# Altium schematic symbol library kmilo17pet-TI_LDO_400_7500.SchLib: 1409 symbols (part 55 of 60)
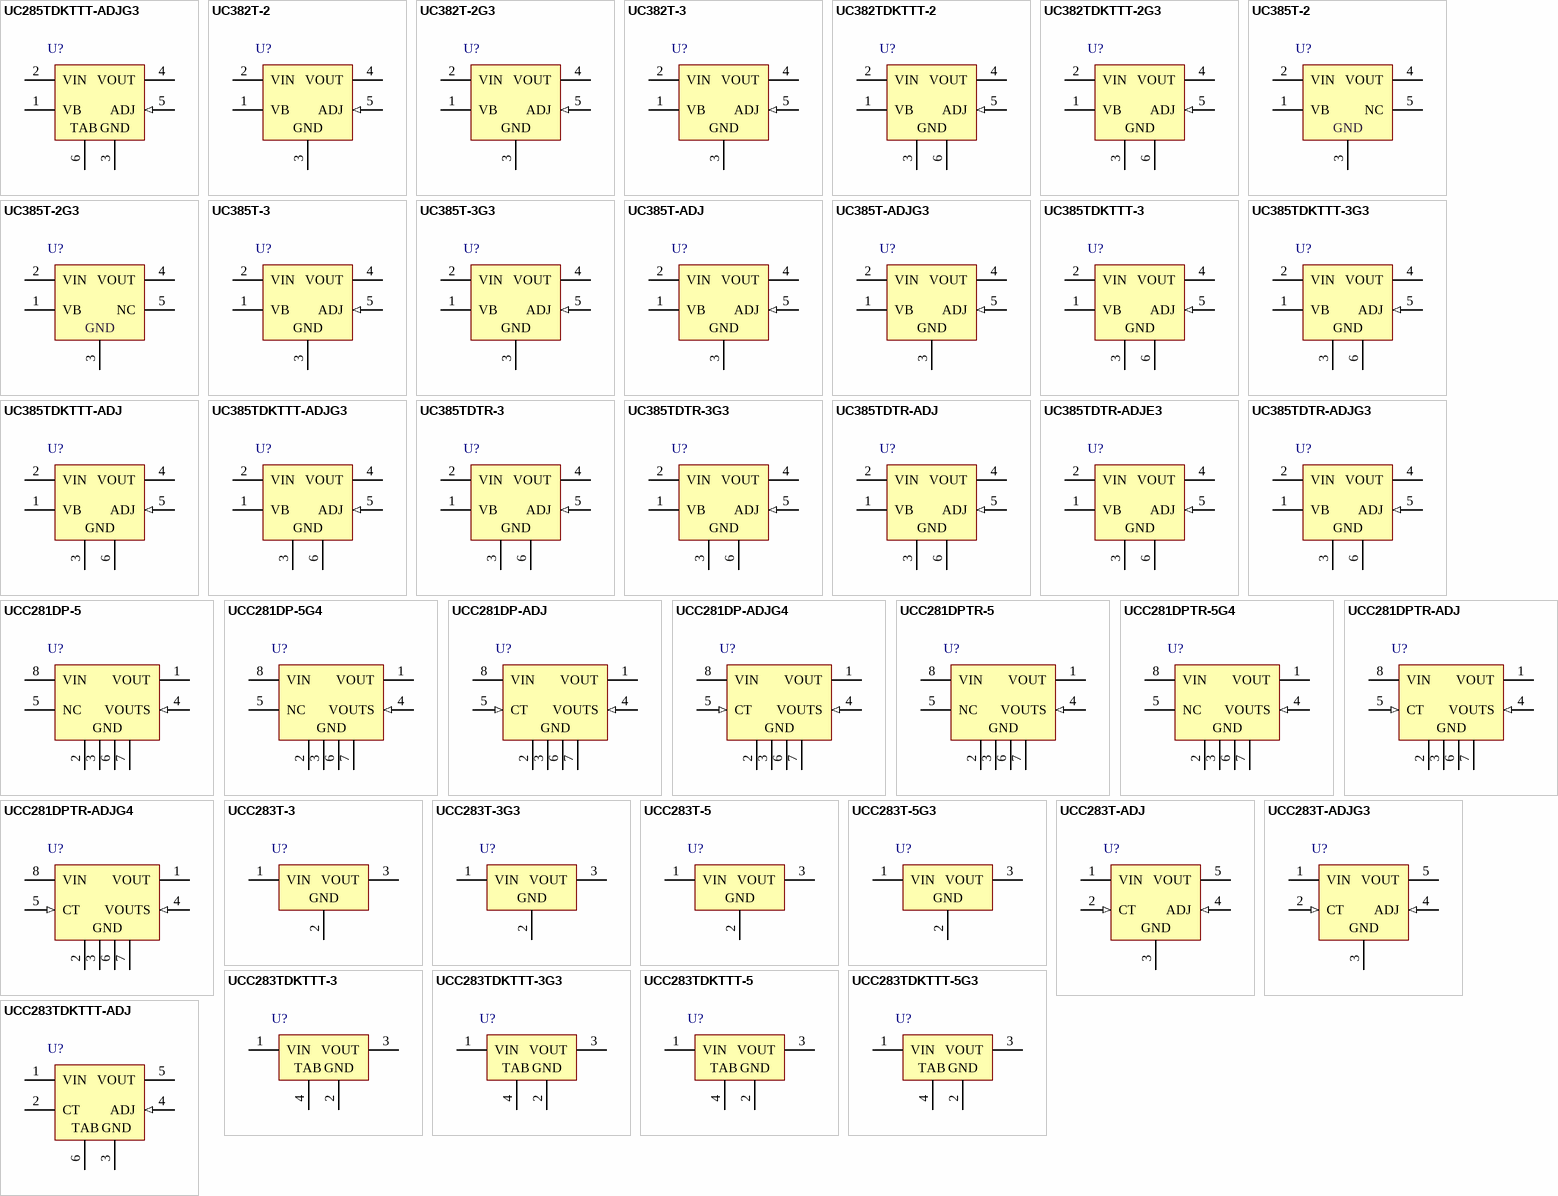
[diagram p104: symbols UC285TDKTTT-ADJG3 to UCC283TDKTTT-ADJ]

## UCC281DPTR-ADJG4
designator U?
Single Output LDO, 1 A, Adjustable 1.2 to 8.8 V Output, 1.8 to 9 V Input, with Low IQ, 8-pin SOIC (D), -40 to 85 degC, Green (RoHS & no Sb/Br); Manufacturer: Texas Instruments; PartNumber: UCC281DPTR-ADJG4; Accuracy(%): 2.5; Iout(Max)(A): 1; Iq(Typ)(mA): 0.4; Rating: Catalog; SubFamily: Single Channel LDO; Vdo(Typ)(mV): 500; Vin(Max)(V): 9; Vin(Min)(V): 1.8; Vout Adj(Max)(V): 8.8; Vout Adj(Min)(V): 1.2; DatasheetVersion: SLUS214B; PackageVersion: 4040047-3/M; PackageReference: D8; PackageDescription: 8-Pin Plastic Small Outline, Body 4.9 x 3.9 mm, Pitch 1.27 mm; Supplier 1: Digi-Key; Supplier Part Number 1: UCC281DPTR-ADJG4-ND; Supplier 2: Mouser; Supplier Part Number 2: 595-UCC281DPTR-ADJG4; Eco-Plan: Green (RoHS & no Sb/Br); Mounting Technology: Surface Mount; Code_JEDEC: MS-012; ComponentLink1Description: Manufacturer URL; ComponentLink1URL: http://www.ti.com/; ComponentLink2Description: Datasheet; ComponentLink2URL: http://www.ti.com/general/docs/lit/getliterature.tsp?genericPartNumber=UCC281-ADJ&fileType=pdf; ComponentLink3Description: Package Specification; ComponentLink3URL: http://www.ti.com/litv/pdf/msoi002j; ComponentLink4Description: URL Link1; ComponentLink4URL: Samples URL:http://www.ti.com/product/ucc281-adj#samples
footprint TI-D8_N (SOIC, 8-Leads, Body 4.9x3.9mm, Pitch 1.27mm, IPC Medium Density)
footprint TI-D8_L (SOIC, 8-Leads, Body 4.9x3.9mm, Pitch 1.27mm, IPC High Density)
footprint TI-D8_M (SOIC, 8-Leads, Body 4.9x3.9mm, Pitch 1.27mm, IPC Low Density)
pins: 1 VOUT (power) "Output for regulator. The regulator does not require a minimum output capacitor for stability. Choose the appropriate size capacitor for the application with respect to the required transient loading. For example, if the (See Datasheet)", 2 GND (power) "All voltages are measured with respect to this pin.This is the low noise ground reference input for regulation. The output decoupling capacitor should be tied to PIN 7.", 3 GND (power) "All voltages are measured with respect to this pin.This is the low noise ground reference input for regulation. The output decoupling capacitor should be tied to PIN 7.", 4 VOUTS (in) "Feedback for regulator sensing of the output voltage. For loads which are a considerable resistive distance from the VOUT pin, the VOUTS pin can be used to move the resistance into the control loop of the regulator,thereby (See Datasheet)", 5 CT (in) "For UCC381-3 and UCC381-5 versions, this is the shutdown pin which, when pulled low, turns off the regulator output and puts the device in a low current state.For the UCC381-ADJ version, a capacitor is required between the (See Datasheet)", 6 GND (power) "All voltages are measured with respect to this pin.This is the low noise ground reference input for regulation. The output decoupling capacitor should be tied to PIN 7.", 7 GND (power) "All voltages are measured with respect to this pin.This is the low noise ground reference input for regulation. The output decoupling capacitor should be tied to PIN 7.", 8 VIN (power) "Positive supply input for the regulator. Bypass this pin to GND with at least 1µF of low ESR, ESL capacitance if the source is located further than 1 inch from the device."

## UCC283T-3
designator U?
Single Output LDO, 3 A, Fixed 3.3 V Output, 3.8 to 9 V Input, with Reverse Current Protection, 3-pin TO-220 (KC), -40 to 85 degC, Green (RoHS & no Sb/Br); Manufacturer: Texas Instruments; PartNumber: UCC283T-3; Accuracy(%): 2.5; Fixed Output Options(V): 3.3; Iout(Max)(A): 3; Iq(Typ)(mA): 0.4; Rating: Catalog; SubFamily: Single Channel LDO; Vdo(Typ)(mV): 500; Vin(Max)(V): 9; Vin(Min)(V): 3.8; DatasheetVersion: SLUS215B; PackageVersion: 4040207/C; PackageReference: KC3; PackageDescription: 3-Pin Plastic Flange Mount; Supplier 1: Digi-Key; Supplier Part Number 1: 296-11413-5-ND; Supplier 2: Farnell; Supplier Part Number 2: 1135447; Supplier 3: Newark; Supplier Part Number 3: 93K1061; Supplier 4: Newark; Supplier Part Number 4: 77C2144; Supplier 5: Mouser; Supplier Part Number 5: 595-UCC283T-3; Eco-Plan: Green (RoHS & no Sb/Br); Mounting Technology: Through Hole; Code_JEDEC: TO-220; ComponentLink1Description: Manufacturer URL; ComponentLink1URL: http://www.ti.com/; ComponentLink2Description: Datasheet; ComponentLink2URL: http://www.ti.com/general/docs/lit/getliterature.tsp?genericPartNumber=UCC283-3&fileType=pdf; ComponentLink3Description: Package Specification; ComponentLink3URL: http://www.ti.com/litv/pdf/msot007b; ComponentLink4Description: URL Link1; ComponentLink4URL: Samples URL:http://www.ti.com/product/ucc283-3#samples
footprint TI-KC3 (Flange Mount, 3-Leads, Body 10.16x4.51mm, Pitch 2.54mm)
pins: 1 VIN (power) "Input voltage, This pin must be bypassed with a low ESL/ESR 1-uF or larger capacitor to GND. VIN can range from (VOUT + VDROPOUT) to 9 V. If VIN is reduced to zero while VOUT is held high, the reverse leakage from VOUT to (See Datasheet)", 2 GND (power) "Reference ground.", 3 VOUT (power) "Regulated output voltage. A bypass capacitor is not required at VOUT, but may be desired for good transient response. The bypass capacitor must not exceed a maximum value in order to insure the regulator can start."

## UCC283T-3G3
designator U?
Single Output LDO, 3 A, Fixed 3.3 V Output, 3.8 to 9 V Input, with Reverse Current Protection, 3-pin TO-220 (KC), -40 to 85 degC, Green (RoHS & no Sb/Br); Manufacturer: Texas Instruments; PartNumber: UCC283T-3G3; Accuracy(%): 2.5; Fixed Output Options(V): 3.3; Iout(Max)(A): 3; Iq(Typ)(mA): 0.4; Rating: Catalog; SubFamily: Single Channel LDO; Vdo(Typ)(mV): 500; Vin(Max)(V): 9; Vin(Min)(V): 3.8; DatasheetVersion: SLUS215B; PackageVersion: 4040207/C; PackageReference: KC3; PackageDescription: 3-Pin Plastic Flange Mount; Supplier 1: Digi-Key; Supplier Part Number 1: UCC283T-3G3-ND; Supplier 2: Newark; Supplier Part Number 2: 54K2037; Supplier 3: Mouser; Supplier Part Number 3: 595-UCC283T-3G3; Eco-Plan: Green (RoHS & no Sb/Br); Mounting Technology: Through Hole; Code_JEDEC: TO-220; ComponentLink1Description: Manufacturer URL; ComponentLink1URL: http://www.ti.com/; ComponentLink2Description: Datasheet; ComponentLink2URL: http://www.ti.com/general/docs/lit/getliterature.tsp?genericPartNumber=UCC283-3&fileType=pdf; ComponentLink3Description: Package Specification; ComponentLink3URL: http://www.ti.com/litv/pdf/msot007b; ComponentLink4Description: URL Link1; ComponentLink4URL: Samples URL:http://www.ti.com/product/ucc283-3#samples
footprint TI-KC3 (Flange Mount, 3-Leads, Body 10.16x4.51mm, Pitch 2.54mm)
pins: 1 VIN (power) "Input voltage, This pin must be bypassed with a low ESL/ESR 1-uF or larger capacitor to GND. VIN can range from (VOUT + VDROPOUT) to 9 V. If VIN is reduced to zero while VOUT is held high, the reverse leakage from VOUT to (See Datasheet)", 2 GND (power) "Reference ground.", 3 VOUT (power) "Regulated output voltage. A bypass capacitor is not required at VOUT, but may be desired for good transient response. The bypass capacitor must not exceed a maximum value in order to insure the regulator can start."

## UCC283T-5
designator U?
Single Output LDO, 3 A, Fixed 5 V Output, 5.4 to 9 V Input, with Reverse Current Protection, 3-pin TO-220 (KC), -40 to 85 degC, Green (RoHS & no Sb/Br); Manufacturer: Texas Instruments; PartNumber: UCC283T-5; Accuracy(%): 2.5; Fixed Output Options(V): 5; Iout(Max)(A): 3; Iq(Typ)(mA): 0.4; SubFamily: Single Channel LDO; Vdo(Typ)(mV): 400; Vin(Max)(V): 9; Vin(Min)(V): 5.4; DatasheetVersion: SLUS215B; PackageVersion: 4040207/C; PackageReference: KC3; PackageDescription: 3-Pin Plastic Flange Mount; Supplier 1: Digi-Key; Supplier Part Number 1: 296-11414-5-ND; Supplier 2: Newark; Supplier Part Number 2: 77C2145; Supplier 3: Mouser; Supplier Part Number 3: 595-UCC283T-5; Eco-Plan: Green (RoHS & no Sb/Br); Vout Adj(Max)(V): 5; Vout Adj(Min)(V): 5; Mounting Technology: Through Hole; Code_JEDEC: TO-220; ComponentLink1Description: Manufacturer URL; ComponentLink1URL: http://www.ti.com/; ComponentLink2Description: Datasheet; ComponentLink2URL: http://www.ti.com/general/docs/lit/getliterature.tsp?genericPartNumber=UCC283-5&fileType=pdf; ComponentLink3Description: Package Specification; ComponentLink3URL: http://www.ti.com/litv/pdf/msot007b
footprint TI-KC3 (Flange Mount, 3-Leads, Body 10.16x4.51mm, Pitch 2.54mm)
pins: 1 VIN (power) "Input voltage, This pin must be bypassed with a low ESL/ESR 1-uF or larger capacitor to GND. VIN can range from (VOUT + VDROPOUT) to 9 V. If VIN is reduced to zero while VOUT is held high, the reverse leakage from VOUT to (See Datasheet)", 2 GND (power) "Reference ground.", 3 VOUT (power) "Regulated output voltage. A bypass capacitor is not required at VOUT, but may be desired for good transient response. The bypass capacitor must not exceed a maximum value in order to insure the regulator can start."

## UCC283T-5G3
designator U?
Single Output LDO, 3 A, Fixed 5 V Output, 5.4 to 9 V Input, with Reverse Current Protection, 3-pin TO-220 (KC), -40 to 85 degC, Green (RoHS & no Sb/Br); Manufacturer: Texas Instruments; PartNumber: UCC283T-5G3; Accuracy(%): 2.5; Fixed Output Options(V): 5; Iout(Max)(A): 3; Iq(Typ)(mA): 0.4; SubFamily: Single Channel LDO; Vdo(Typ)(mV): 400; Vin(Max)(V): 9; Vin(Min)(V): 5.4; DatasheetVersion: SLUS215B; PackageVersion: 4040207/C; PackageReference: KC3; PackageDescription: 3-Pin Plastic Flange Mount; Supplier 1: Digi-Key; Supplier Part Number 1: UCC283T-5G3-ND; Supplier 2: Mouser; Supplier Part Number 2: 595-UCC283T-5G3; Eco-Plan: Green (RoHS & no Sb/Br); Vout Adj(Max)(V): 5; Vout Adj(Min)(V): 5; Mounting Technology: Through Hole; Code_JEDEC: TO-220; ComponentLink1Description: Manufacturer URL; ComponentLink1URL: http://www.ti.com/; ComponentLink2Description: Datasheet; ComponentLink2URL: http://www.ti.com/general/docs/lit/getliterature.tsp?genericPartNumber=UCC283-5&fileType=pdf; ComponentLink3Description: Package Specification; ComponentLink3URL: http://www.ti.com/litv/pdf/msot007b
footprint TI-KC3 (Flange Mount, 3-Leads, Body 10.16x4.51mm, Pitch 2.54mm)
pins: 1 VIN (power) "Input voltage, This pin must be bypassed with a low ESL/ESR 1-uF or larger capacitor to GND. VIN can range from (VOUT + VDROPOUT) to 9 V. If VIN is reduced to zero while VOUT is held high, the reverse leakage from VOUT to (See Datasheet)", 2 GND (power) "Reference ground.", 3 VOUT (power) "Regulated output voltage. A bypass capacitor is not required at VOUT, but may be desired for good transient response. The bypass capacitor must not exceed a maximum value in order to insure the regulator can start."

## UCC283T-ADJ
designator U?
Single Output LDO, 3 A, Adjustable 1.22 to 8.5 V Output, 2.8 to 9 V Input, with Reverse Current Protection, 5-pin TO-220 (KC), -40 to 85 degC, Green (RoHS & no Sb/Br); Manufacturer: Texas Instruments; PartNumber: UCC283T-ADJ; Accuracy(%): 2.5; Iout(Max)(A): 3; Iq(Typ)(mA): 0.4; SubFamily: Single Channel LDO; Vdo(Typ)(mV): 400; Vin(Max)(V): 9; Vin(Min)(V): 2.8; Vout Adj(Max)(V): 8.5; Vout Adj(Min)(V): 1.2; DatasheetVersion: SLUS215B; PackageVersion: 4040208/F; PackageReference: KC5; PackageDescription: 5-Pin Plastic Flange Mount; Supplier 1: Digi-Key; Supplier Part Number 1: 296-15163-5-ND; Supplier 2: Farnell; Supplier Part Number 2: 1135448; Supplier 3: Newark; Supplier Part Number 3: 93K1060; Supplier 4: Newark; Supplier Part Number 4: 77C2143; Supplier 5: Mouser; Supplier Part Number 5: 595-UCC283T-ADJ; Eco-Plan: Green (RoHS & no Sb/Br); Mounting Technology: Through Hole; ComponentLink1Description: Manufacturer URL; ComponentLink1URL: http://www.ti.com/; ComponentLink2Description: Datasheet; ComponentLink2URL: http://www.ti.com/general/docs/lit/getliterature.tsp?genericPartNumber=UCC283-ADJ&fileType=pdf; ComponentLink3Description: Package Specification; ComponentLink3URL: http://www.ti.com/litv/pdf/msot008c
footprint TI-KC5 (FM, 5-Leads, Body 10.16x8.46mm, Pitch 1.7mm,)
pins: 1 VIN (power) "Input voltage, This pin must be bypassed with a low ESL/ESR 1-uF or larger capacitor to GND. VIN can range from (VOUT + VDROPOUT) to 9 V. If VIN is reduced to zero while VOUT is held high, the reverse leakage from VOUT to (See Datasheet)", 2 CT (in) "Short-circuit timing capacitor and shutdown input for the UCC283-ADJ version. Pulling CT below 0.25 V turns off the regulator and places it in a low quiescent-current mode. A timing capacitor, C, from CT to GND programs the (See Datasheet)", 3 GND (power) "Reference ground.", 4 ADJ (in) "Adjust pin for the UCC283-ADJ version only. Feedback pin for the linear regulator. Program the output voltage with R1 connected from ADJ to GND and R2 connected from VOUT to ADJ.", 5 VOUT (power) "Regulated output voltage. A bypass capacitor is not required at VOUT, but may be desired for good transient response. The bypass capacitor must not exceed a maximum value in order to insure the regulator can start."

## UCC283T-ADJG3
designator U?
Single Output LDO, 3 A, Adjustable 1.22 to 8.5 V Output, 2.8 to 9 V Input, with Reverse Current Protection, 5-pin TO-220 (KC), -40 to 85 degC, Green (RoHS & no Sb/Br); Manufacturer: Texas Instruments; PartNumber: UCC283T-ADJG3; Accuracy(%): 2.5; Iout(Max)(A): 3; Iq(Typ)(mA): 0.4; SubFamily: Single Channel LDO; Vdo(Typ)(mV): 400; Vin(Max)(V): 9; Vin(Min)(V): 2.8; Vout Adj(Max)(V): 8.5; Vout Adj(Min)(V): 1.2; DatasheetVersion: SLUS215B; PackageVersion: 4040208/F; PackageReference: KC5; PackageDescription: 5-Pin Plastic Flange Mount; Supplier 1: Digi-Key; Supplier Part Number 1: UCC283T-ADJG3-ND; Supplier 2: Mouser; Supplier Part Number 2: 595-UCC283T-ADJG3; Eco-Plan: Green (RoHS & no Sb/Br); Mounting Technology: Through Hole; ComponentLink1Description: Manufacturer URL; ComponentLink1URL: http://www.ti.com/; ComponentLink2Description: Datasheet; ComponentLink2URL: http://www.ti.com/general/docs/lit/getliterature.tsp?genericPartNumber=UCC283-ADJ&fileType=pdf; ComponentLink3Description: Package Specification; ComponentLink3URL: http://www.ti.com/litv/pdf/msot008c
footprint TI-KC5 (FM, 5-Leads, Body 10.16x8.46mm, Pitch 1.7mm,)
pins: 1 VIN (power) "Input voltage, This pin must be bypassed with a low ESL/ESR 1-uF or larger capacitor to GND. VIN can range from (VOUT + VDROPOUT) to 9 V. If VIN is reduced to zero while VOUT is held high, the reverse leakage from VOUT to (See Datasheet)", 2 CT (in) "Short-circuit timing capacitor and shutdown input for the UCC283-ADJ version. Pulling CT below 0.25 V turns off the regulator and places it in a low quiescent-current mode. A timing capacitor, C, from CT to GND programs the (See Datasheet)", 3 GND (power) "Reference ground.", 4 ADJ (in) "Adjust pin for the UCC283-ADJ version only. Feedback pin for the linear regulator. Program the output voltage with R1 connected from ADJ to GND and R2 connected from VOUT to ADJ.", 5 VOUT (power) "Regulated output voltage. A bypass capacitor is not required at VOUT, but may be desired for good transient response. The bypass capacitor must not exceed a maximum value in order to insure the regulator can start."

## UCC283TDKTTT-3
designator U?
Single Output LDO, 3 A, Fixed 3.3 V Output, 3.8 to 9 V Input, with Reverse Current Protection, 3-pin DDPAK (KTT), -40 to 85 degC, Green (RoHS & no Sb/Br); Manufacturer: Texas Instruments; PartNumber: UCC283TDKTTT-3; Accuracy(%): 2.5; Fixed Output Options(V): 3.3; Iout(Max)(A): 3; Iq(Typ)(mA): 0.4; Rating: Catalog; SubFamily: Single Channel LDO; Vdo(Typ)(mV): 500; Vin(Max)(V): 9; Vin(Min)(V): 3.8; DatasheetVersion: SLUS215B; PackageVersion: 4200577-2/F; PackageReference: KTT3; PackageDescription: 3-Pin Plastic Flange Mount, Body 10.16 x 10.43 mm, Pitch 2.54 mm; Supplier 1: Digi-Key; Supplier Part Number 1: 296-17787-2-ND; Supplier 2: Digi-Key; Supplier Part Number 2: 296-17787-1-ND; Supplier 3: Digi-Key; Supplier Part Number 3: 296-17787-6-ND; Supplier 4: Farnell; Supplier Part Number 4: 1135449RL; Supplier 5: Farnell; Supplier Part Number 5: 1135449; Supplier 6: Newark; Supplier Part Number 6: 93K1063; Supplier 7: Mouser; Supplier Part Number 7: 595-UCC283TDKTTT-3; Eco-Plan: Green (RoHS & no Sb/Br); Vout Adj(Max)(V): 3.3; Vout Adj(Min)(V): 3.3; Mounting Technology: Surface Mount; Code_JEDEC: TO-263; ComponentLink1Description: Manufacturer URL; ComponentLink1URL: http://www.ti.com/; ComponentLink2Description: Datasheet; ComponentLink2URL: http://www.ti.com/general/docs/lit/getliterature.tsp?genericPartNumber=UCC283-3&fileType=pdf; ComponentLink3Description: Package Specification; ComponentLink3URL: http://www.ti.com/litv/pdf/mpsf006e; ComponentLink4Description: URL Link1; ComponentLink4URL: Samples URL:http://www.ti.com/product/ucc283-3#samples
footprint TI-KTT3_N (DPAK, 3-Leads, Body 10.16x9.015mm, Pitch 2.54mm, IPC Medium Density)
footprint TI-KTT3_L (DPAK, 3-Leads, Body 10.16x9.015mm, Pitch 2.54mm, IPC High Density)
footprint TI-KTT3_M (DPAK, 3-Leads, Body 10.16x9.015mm, Pitch 2.54mm, IPC Low Density)
pins: 1 VIN (power) "Input voltage, This pin must be bypassed with a low ESL/ESR 1-µF or larger capacitor to GND. VIN can range from (VOUT + VDROPOUT) to 9 V. If VIN is reduced to zero while VOUT is held high, the reverse leakage from VOUT to (See Datasheet)", 2 GND (power) "Reference ground.", 3 VOUT (power) "Regulated output voltage. A bypass capacitor is not required at VOUT, but may be desired for good transient response. The bypass capacitor must not exceed a maximum value in order to insure the regulator can start.", 4 TAB (power)

## UCC283TDKTTT-3G3
designator U?
Single Output LDO, 3 A, Fixed 3.3 V Output, 3.8 to 9 V Input, with Reverse Current Protection, 3-pin DDPAK (KTT), -40 to 85 degC, Green (RoHS & no Sb/Br); Manufacturer: Texas Instruments; PartNumber: UCC283TDKTTT-3G3; Accuracy(%): 2.5; Fixed Output Options(V): 3.3; Iout(Max)(A): 3; Iq(Typ)(mA): 0.4; Rating: Catalog; SubFamily: Single Channel LDO; Vdo(Typ)(mV): 500; Vin(Max)(V): 9; Vin(Min)(V): 3.8; DatasheetVersion: SLUS215B; PackageVersion: 4200577-2/F; PackageReference: KTT3; PackageDescription: 3-Pin Plastic Flange Mount, Body 10.16 x 10.43 mm, Pitch 2.54 mm; Supplier 1: Digi-Key; Supplier Part Number 1: UCC283TDKTTT-3G3-ND; Supplier 2: Newark; Supplier Part Number 2: 80K3510; Supplier 3: Mouser; Supplier Part Number 3: 595-UCC283TDKTTT-3G3; Eco-Plan: Green (RoHS & no Sb/Br); Vout Adj(Max)(V): 3.3; Vout Adj(Min)(V): 3.3; Mounting Technology: Surface Mount; Code_JEDEC: TO-263; ComponentLink1Description: Manufacturer URL; ComponentLink1URL: http://www.ti.com/; ComponentLink2Description: Datasheet; ComponentLink2URL: http://www.ti.com/general/docs/lit/getliterature.tsp?genericPartNumber=UCC283-3&fileType=pdf; ComponentLink3Description: Package Specification; ComponentLink3URL: http://www.ti.com/litv/pdf/mpsf006e; ComponentLink4Description: URL Link1; ComponentLink4URL: Samples URL:http://www.ti.com/product/ucc283-3#samples
footprint TI-KTT3_N (DPAK, 3-Leads, Body 10.16x9.015mm, Pitch 2.54mm, IPC Medium Density)
footprint TI-KTT3_L (DPAK, 3-Leads, Body 10.16x9.015mm, Pitch 2.54mm, IPC High Density)
footprint TI-KTT3_M (DPAK, 3-Leads, Body 10.16x9.015mm, Pitch 2.54mm, IPC Low Density)
pins: 1 VIN (power) "Input voltage, This pin must be bypassed with a low ESL/ESR 1-µF or larger capacitor to GND. VIN can range from (VOUT + VDROPOUT) to 9 V. If VIN is reduced to zero while VOUT is held high, the reverse leakage from VOUT to (See Datasheet)", 2 GND (power) "Reference ground.", 3 VOUT (power) "Regulated output voltage. A bypass capacitor is not required at VOUT, but may be desired for good transient response. The bypass capacitor must not exceed a maximum value in order to insure the regulator can start.", 4 TAB (power)

## UCC283TDKTTT-5
designator U?
Single Output LDO, 3 A, Fixed 5 V Output, 5.4 to 9 V Input, with Reverse Current Protection, 3-pin DDPAK (KTT), -40 to 85 degC, Green (RoHS & no Sb/Br); Manufacturer: Texas Instruments; PartNumber: UCC283TDKTTT-5; Accuracy(%): 2.5; Fixed Output Options(V): 5; Iout(Max)(A): 3; Iq(Typ)(mA): 0.4; SubFamily: Single Channel LDO; Vdo(Typ)(mV): 400; Vin(Max)(V): 9; Vin(Min)(V): 5.4; DatasheetVersion: SLUS215B; PackageVersion: 4200577-2/F; PackageReference: KTT3; PackageDescription: 3-Pin Plastic Flange Mount, Body 10.16 x 10.43 mm, Pitch 2.54 mm; Supplier 1: Digi-Key; Supplier Part Number 1: 296-19039-2-ND; Supplier 2: Digi-Key; Supplier Part Number 2: 296-19039-1-ND; Supplier 3: Digi-Key; Supplier Part Number 3: 296-19039-6-ND; Supplier 4: Newark; Supplier Part Number 4: 21J9293; Supplier 5: Mouser; Supplier Part Number 5: 595-UCC283TDKTTT-5; Eco-Plan: Green (RoHS & no Sb/Br); Vout Adj(Max)(V): 5; Vout Adj(Min)(V): 5; Mounting Technology: Surface Mount; Code_JEDEC: TO-263; ComponentLink1Description: Manufacturer URL; ComponentLink1URL: http://www.ti.com/; ComponentLink2Description: Datasheet; ComponentLink2URL: http://www.ti.com/general/docs/lit/getliterature.tsp?genericPartNumber=UCC283-5&fileType=pdf; ComponentLink3Description: Package Specification; ComponentLink3URL: http://www.ti.com/litv/pdf/mpsf006e
footprint TI-KTT3_N (DPAK, 3-Leads, Body 10.16x9.015mm, Pitch 2.54mm, IPC Medium Density)
footprint TI-KTT3_L (DPAK, 3-Leads, Body 10.16x9.015mm, Pitch 2.54mm, IPC High Density)
footprint TI-KTT3_M (DPAK, 3-Leads, Body 10.16x9.015mm, Pitch 2.54mm, IPC Low Density)
pins: 1 VIN (power) "Input voltage, This pin must be bypassed with a low ESL/ESR 1-µF or larger capacitor to GND. VIN can range from (VOUT + VDROPOUT) to 9 V. If VIN is reduced to zero while VOUT is held high, the reverse leakage from VOUT to (See Datasheet)", 2 GND (power) "Reference ground.", 3 VOUT (power) "Regulated output voltage. A bypass capacitor is not required at VOUT, but may be desired for good transient response. The bypass capacitor must not exceed a maximum value in order to insure the regulator can start.", 4 TAB (power)

## UCC283TDKTTT-5G3
designator U?
Single Output LDO, 3 A, Fixed 5 V Output, 5.4 to 9 V Input, with Reverse Current Protection, 3-pin DDPAK (KTT), -40 to 85 degC, Green (RoHS & no Sb/Br); Manufacturer: Texas Instruments; PartNumber: UCC283TDKTTT-5G3; Accuracy(%): 2.5; Fixed Output Options(V): 5; Iout(Max)(A): 3; Iq(Typ)(mA): 0.4; SubFamily: Single Channel LDO; Vdo(Typ)(mV): 400; Vin(Max)(V): 9; Vin(Min)(V): 5.4; DatasheetVersion: SLUS215B; PackageVersion: 4200577-2/F; PackageReference: KTT3; PackageDescription: 3-Pin Plastic Flange Mount, Body 10.16 x 10.43 mm, Pitch 2.54 mm; Supplier 1: Digi-Key; Supplier Part Number 1: UCC283TDKTTT-5G3-ND; Supplier 2: Newark; Supplier Part Number 2: 73K9671; Supplier 3: Mouser; Supplier Part Number 3: 595-UCC283TDKTTT-5G3; Eco-Plan: Green (RoHS & no Sb/Br); Vout Adj(Max)(V): 5; Vout Adj(Min)(V): 5; Mounting Technology: Surface Mount; Code_JEDEC: TO-263; ComponentLink1Description: Manufacturer URL; ComponentLink1URL: http://www.ti.com/; ComponentLink2Description: Datasheet; ComponentLink2URL: http://www.ti.com/general/docs/lit/getliterature.tsp?genericPartNumber=UCC283-5&fileType=pdf; ComponentLink3Description: Package Specification; ComponentLink3URL: http://www.ti.com/litv/pdf/mpsf006e
footprint TI-KTT3_N (DPAK, 3-Leads, Body 10.16x9.015mm, Pitch 2.54mm, IPC Medium Density)
footprint TI-KTT3_L (DPAK, 3-Leads, Body 10.16x9.015mm, Pitch 2.54mm, IPC High Density)
footprint TI-KTT3_M (DPAK, 3-Leads, Body 10.16x9.015mm, Pitch 2.54mm, IPC Low Density)
pins: 1 VIN (power) "Input voltage, This pin must be bypassed with a low ESL/ESR 1-µF or larger capacitor to GND. VIN can range from (VOUT + VDROPOUT) to 9 V. If VIN is reduced to zero while VOUT is held high, the reverse leakage from VOUT to (See Datasheet)", 2 GND (power) "Reference ground.", 3 VOUT (power) "Regulated output voltage. A bypass capacitor is not required at VOUT, but may be desired for good transient response. The bypass capacitor must not exceed a maximum value in order to insure the regulator can start.", 4 TAB (power)

## UCC283TDKTTT-ADJ
designator U?
Single Output LDO, 3 A, Adjustable 1.22 to 8.5 V Output, 2.8 to 9 V Input, with Reverse Current Protection, 5-pin DDPAK (KTT), -40 to 85 degC, Green (RoHS & no Sb/Br); Manufacturer: Texas Instruments; PartNumber: UCC283TDKTTT-ADJ; Accuracy(%): 2.5; Iout(Max)(A): 3; Iq(Typ)(mA): 0.4; SubFamily: Single Channel LDO; Vdo(Typ)(mV): 400; Vin(Max)(V): 9; Vin(Min)(V): 2.8; Vout Adj(Max)(V): 8.5; Vout Adj(Min)(V): 1.2; DatasheetVersion: SLUS215B; PackageVersion: 4200577-3/F; PackageReference: KTT5; PackageDescription: 3-Pin Plastic Flange Mount, Body 10.16 x 10.34 mm, Pitch 1.7 mm; Supplier 1: Digi-Key; Supplier Part Number 1: 296-16027-2-ND; Supplier 2: Digi-Key; Supplier Part Number 2: 296-16027-1-ND; Supplier 3: Digi-Key; Supplier Part Number 3: 296-16027-6-ND; Supplier 4: Farnell; Supplier Part Number 4: 1135450RL; Supplier 5: Farnell; Supplier Part Number 5: 1135450; Supplier 6: Newark; Supplier Part Number 6: 93K1062; Supplier 7: Mouser; Supplier Part Number 7: 595-UC283TDKTTT-ADJ; Eco-Plan: Green (RoHS & no Sb/Br); Mounting Technology: Surface Mount; Code_JEDEC: TO-263; ComponentLink1Description: Manufacturer URL; ComponentLink1URL: http://www.ti.com/; ComponentLink2Description: Datasheet; ComponentLink2URL: http://www.ti.com/general/docs/lit/getliterature.tsp?genericPartNumber=UCC283-ADJ&fileType=pdf; ComponentLink3Description: Package Specification; ComponentLink3URL: http://www.ti.com/litv/pdf/mpsf007e
footprint TI-KTT5_N (DPAK, 5-Leads, Body 10.16x8.925mm, Pitch 1.7mm, IPC Medium Density)
footprint TI-KTT5_L (DPAK, 5-Leads, Body 10.16x8.925mm, Pitch 1.7mm, IPC High Density)
footprint TI-KTT5_M (DPAK, 5-Leads, Body 10.16x8.925mm, Pitch 1.7mm, IPC Low Density)
pins: 1 VIN (power), 2 CT, 3 GND (power), 4 ADJ (in), 5 VOUT (power), 6 TAB (power)

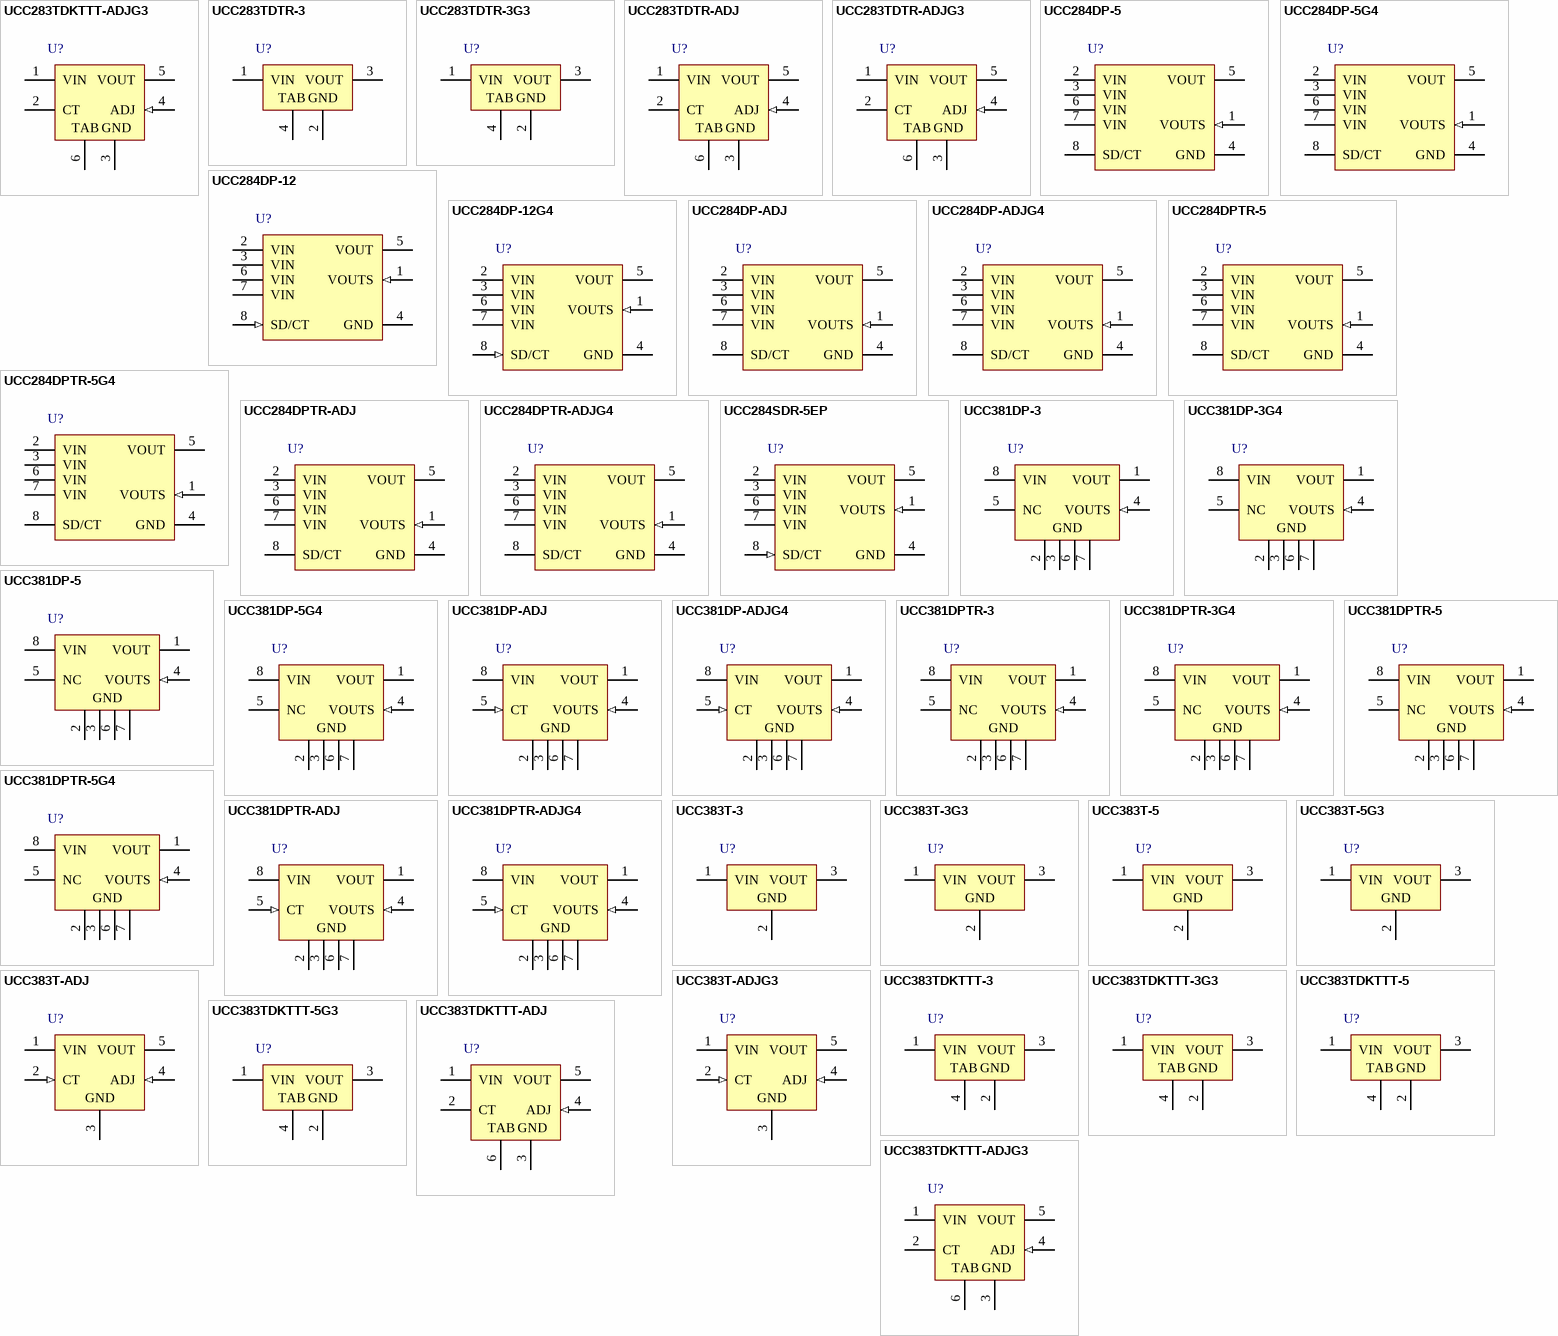
[diagram p46: symbols UCC283TDKTTT-ADJG3 to UCC383TDKTTT-ADJG3]

## UCC283TDKTTT-ADJG3
designator U?
Single Output LDO, 3 A, Adjustable 1.22 to 8.5 V Output, 2.8 to 9 V Input, with Reverse Current Protection, 5-pin DDPAK (KTT), -40 to 85 degC, Green (RoHS & no Sb/Br); Manufacturer: Texas Instruments; PartNumber: UCC283TDKTTT-ADJG3; Accuracy(%): 2.5; Iout(Max)(A): 3; Iq(Typ)(mA): 0.4; SubFamily: Single Channel LDO; Vdo(Typ)(mV): 400; Vin(Max)(V): 9; Vin(Min)(V): 2.8; Vout Adj(Max)(V): 8.5; Vout Adj(Min)(V): 1.2; DatasheetVersion: SLUS215B; PackageVersion: 4200577-3/F; PackageReference: KTT5; PackageDescription: 3-Pin Plastic Flange Mount, Body 10.16 x 10.34 mm, Pitch 1.7 mm; Supplier 1: Digi-Key; Supplier Part Number 1: UCC283TDKTTT-ADJG3-ND; Supplier 2: Newark; Supplier Part Number 2: 54K2039; Supplier 3: Mouser; Supplier Part Number 3: 595-UCC283TDKTTT-ADJ; Eco-Plan: Green (RoHS & no Sb/Br); Mounting Technology: Surface Mount; Code_JEDEC: TO-263; ComponentLink1Description: Manufacturer URL; ComponentLink1URL: http://www.ti.com/; ComponentLink2Description: Datasheet; ComponentLink2URL: http://www.ti.com/general/docs/lit/getliterature.tsp?genericPartNumber=UCC283-ADJ&fileType=pdf; ComponentLink3Description: Package Specification; ComponentLink3URL: http://www.ti.com/litv/pdf/mpsf007e
footprint TI-KTT5_N (DPAK, 5-Leads, Body 10.16x8.925mm, Pitch 1.7mm, IPC Medium Density)
footprint TI-KTT5_L (DPAK, 5-Leads, Body 10.16x8.925mm, Pitch 1.7mm, IPC High Density)
footprint TI-KTT5_M (DPAK, 5-Leads, Body 10.16x8.925mm, Pitch 1.7mm, IPC Low Density)
pins: 1 VIN (power), 2 CT, 3 GND (power), 4 ADJ (in), 5 VOUT (power), 6 TAB (power)

## UCC283TDTR-3
designator U?
Single Output LDO, 3 A, Fixed 3.3 V Output, 3.8 to 9 V Input, with Reverse Current Protection, 3-pin DDPAK (KTT), -40 to 85 degC, Green (RoHS & no Sb/Br); Manufacturer: Texas Instruments; PartNumber: UCC283TDTR-3; Accuracy(%): 2.5; Fixed Output Options(V): 3.3; Iout(Max)(A): 3; Iq(Typ)(mA): 0.4; Rating: Catalog; SubFamily: Single Channel LDO; Vdo(Typ)(mV): 500; Vin(Max)(V): 9; Vin(Min)(V): 3.8; DatasheetVersion: SLUS215B; PackageVersion: 4200577-2/F; PackageReference: KTT3; PackageDescription: 3-Pin Plastic Flange Mount, Body 10.16 x 10.43 mm, Pitch 2.54 mm; Supplier 1: Digi-Key; Supplier Part Number 1: UCC283TDTR-3-ND; Supplier 2: Newark; Supplier Part Number 2: 77C2149; Supplier 3: Mouser; Supplier Part Number 3: 595-UCC283TDTR-3; Eco-Plan: Green (RoHS & no Sb/Br); Vout Adj(Max)(V): 3.3; Vout Adj(Min)(V): 3.3; Mounting Technology: Surface Mount; Code_JEDEC: TO-263; ComponentLink1Description: Manufacturer URL; ComponentLink1URL: http://www.ti.com/; ComponentLink2Description: Datasheet; ComponentLink2URL: http://www.ti.com/general/docs/lit/getliterature.tsp?genericPartNumber=UCC283-3&fileType=pdf; ComponentLink3Description: Package Specification; ComponentLink3URL: http://www.ti.com/litv/pdf/mpsf006e; ComponentLink4Description: URL Link1; ComponentLink4URL: Samples URL:http://www.ti.com/product/ucc283-3#samples
footprint TI-KTT3_N (DPAK, 3-Leads, Body 10.16x9.015mm, Pitch 2.54mm, IPC Medium Density)
footprint TI-KTT3_L (DPAK, 3-Leads, Body 10.16x9.015mm, Pitch 2.54mm, IPC High Density)
footprint TI-KTT3_M (DPAK, 3-Leads, Body 10.16x9.015mm, Pitch 2.54mm, IPC Low Density)
pins: 1 VIN (power) "Input voltage, This pin must be bypassed with a low ESL/ESR 1-µF or larger capacitor to GND. VIN can range from (VOUT + VDROPOUT) to 9 V. If VIN is reduced to zero while VOUT is held high, the reverse leakage from VOUT to (See Datasheet)", 2 GND (power) "Reference ground.", 3 VOUT (power) "Regulated output voltage. A bypass capacitor is not required at VOUT, but may be desired for good transient response. The bypass capacitor must not exceed a maximum value in order to insure the regulator can start.", 4 TAB (power)

## UCC283TDTR-3G3
designator U?
Single Output LDO, 3 A, Fixed 3.3 V Output, 3.8 to 9 V Input, with Reverse Current Protection, 3-pin DDPAK (KTT), -40 to 85 degC, Green (RoHS & no Sb/Br); Manufacturer: Texas Instruments; PartNumber: UCC283TDTR-3G3; Accuracy(%): 2.5; Fixed Output Options(V): 3.3; Iout(Max)(A): 3; Iq(Typ)(mA): 0.4; Rating: Catalog; SubFamily: Single Channel LDO; Vdo(Typ)(mV): 500; Vin(Max)(V): 9; Vin(Min)(V): 3.8; DatasheetVersion: SLUS215B; PackageVersion: 4200577-2/F; PackageReference: KTT3; PackageDescription: 3-Pin Plastic Flange Mount, Body 10.16 x 10.43 mm, Pitch 2.54 mm; Supplier 1: Digi-Key; Supplier Part Number 1: UCC283TDTR-3G3-ND; Supplier 2: Newark; Supplier Part Number 2: 67K8771; Supplier 3: Mouser; Supplier Part Number 3: 595-UCC283TDTR-3G3; Eco-Plan: Green (RoHS & no Sb/Br); Vout Adj(Max)(V): 3.3; Vout Adj(Min)(V): 3.3; Mounting Technology: Surface Mount; Code_JEDEC: TO-263; ComponentLink1Description: Manufacturer URL; ComponentLink1URL: http://www.ti.com/; ComponentLink2Description: Datasheet; ComponentLink2URL: http://www.ti.com/general/docs/lit/getliterature.tsp?genericPartNumber=UCC283-3&fileType=pdf; ComponentLink3Description: Package Specification; ComponentLink3URL: http://www.ti.com/litv/pdf/mpsf006e; ComponentLink4Description: URL Link1; ComponentLink4URL: Samples URL:http://www.ti.com/product/ucc283-3#samples
footprint TI-KTT3_N (DPAK, 3-Leads, Body 10.16x9.015mm, Pitch 2.54mm, IPC Medium Density)
footprint TI-KTT3_L (DPAK, 3-Leads, Body 10.16x9.015mm, Pitch 2.54mm, IPC High Density)
footprint TI-KTT3_M (DPAK, 3-Leads, Body 10.16x9.015mm, Pitch 2.54mm, IPC Low Density)
pins: 1 VIN (power) "Input voltage, This pin must be bypassed with a low ESL/ESR 1-µF or larger capacitor to GND. VIN can range from (VOUT + VDROPOUT) to 9 V. If VIN is reduced to zero while VOUT is held high, the reverse leakage from VOUT to (See Datasheet)", 2 GND (power) "Reference ground.", 3 VOUT (power) "Regulated output voltage. A bypass capacitor is not required at VOUT, but may be desired for good transient response. The bypass capacitor must not exceed a maximum value in order to insure the regulator can start.", 4 TAB (power)

## UCC283TDTR-ADJ
designator U?
Single Output LDO, 3 A, Adjustable 1.22 to 8.5 V Output, 2.8 to 9 V Input, with Reverse Current Protection, 5-pin DDPAK (KTT), -40 to 85 degC, Green (RoHS & no Sb/Br); Manufacturer: Texas Instruments; PartNumber: UCC283TDTR-ADJ; Accuracy(%): 2.5; Iout(Max)(A): 3; Iq(Typ)(mA): 0.4; SubFamily: Single Channel LDO; Vdo(Typ)(mV): 400; Vin(Max)(V): 9; Vin(Min)(V): 2.8; Vout Adj(Max)(V): 8.5; Vout Adj(Min)(V): 1.2; DatasheetVersion: SLUS215B; PackageVersion: 4200577-3/F; PackageReference: KTT5; PackageDescription: 3-Pin Plastic Flange Mount, Body 10.16 x 10.34 mm, Pitch 1.7 mm; Supplier 1: Digi-Key; Supplier Part Number 1: UCC283TDTR-ADJ-ND; Supplier 2: Newark; Supplier Part Number 2: 73H4678; Supplier 3: Mouser; Supplier Part Number 3: 595-UCC283TDTR-ADJ; Eco-Plan: Green (RoHS & no Sb/Br); Mounting Technology: Surface Mount; Code_JEDEC: TO-263; ComponentLink1Description: Manufacturer URL; ComponentLink1URL: http://www.ti.com/; ComponentLink2Description: Datasheet; ComponentLink2URL: http://www.ti.com/general/docs/lit/getliterature.tsp?genericPartNumber=UCC283-ADJ&fileType=pdf; ComponentLink3Description: Package Specification; ComponentLink3URL: http://www.ti.com/litv/pdf/mpsf007e
footprint TI-KTT5_N (DPAK, 5-Leads, Body 10.16x8.925mm, Pitch 1.7mm, IPC Medium Density)
footprint TI-KTT5_L (DPAK, 5-Leads, Body 10.16x8.925mm, Pitch 1.7mm, IPC High Density)
footprint TI-KTT5_M (DPAK, 5-Leads, Body 10.16x8.925mm, Pitch 1.7mm, IPC Low Density)
pins: 1 VIN (power), 2 CT, 3 GND (power), 4 ADJ (in), 5 VOUT (power), 6 TAB (power)

## UCC283TDTR-ADJG3
designator U?
Single Output LDO, 3 A, Adjustable 1.22 to 8.5 V Output, 2.8 to 9 V Input, with Reverse Current Protection, 5-pin DDPAK (KTT), -40 to 85 degC, Green (RoHS & no Sb/Br); Manufacturer: Texas Instruments; PartNumber: UCC283TDTR-ADJG3; Accuracy(%): 2.5; Iout(Max)(A): 3; Iq(Typ)(mA): 0.4; SubFamily: Single Channel LDO; Vdo(Typ)(mV): 400; Vin(Max)(V): 9; Vin(Min)(V): 2.8; Vout Adj(Max)(V): 8.5; Vout Adj(Min)(V): 1.2; DatasheetVersion: SLUS215B; PackageVersion: 4200577-3/F; PackageReference: KTT5; PackageDescription: 3-Pin Plastic Flange Mount, Body 10.16 x 10.34 mm, Pitch 1.7 mm; Supplier 1: Digi-Key; Supplier Part Number 1: UCC283TDTR-ADJG3-ND; Supplier 2: Mouser; Supplier Part Number 2: 595-UCC283TDTR-ADJG3; Eco-Plan: Green (RoHS & no Sb/Br); Mounting Technology: Surface Mount; Code_JEDEC: TO-263; ComponentLink1Description: Manufacturer URL; ComponentLink1URL: http://www.ti.com/; ComponentLink2Description: Datasheet; ComponentLink2URL: http://www.ti.com/general/docs/lit/getliterature.tsp?genericPartNumber=UCC283-ADJ&fileType=pdf; ComponentLink3Description: Package Specification; ComponentLink3URL: http://www.ti.com/litv/pdf/mpsf007e
footprint TI-KTT5_N (DPAK, 5-Leads, Body 10.16x8.925mm, Pitch 1.7mm, IPC Medium Density)
footprint TI-KTT5_L (DPAK, 5-Leads, Body 10.16x8.925mm, Pitch 1.7mm, IPC High Density)
footprint TI-KTT5_M (DPAK, 5-Leads, Body 10.16x8.925mm, Pitch 1.7mm, IPC Low Density)
pins: 1 VIN (power), 2 CT, 3 GND (power), 4 ADJ (in), 5 VOUT (power), 6 TAB (power)

## UCC284DP-5
designator U?
Single Output LDO, 500 mA, Fixed -5 V Output, -3.2 to -15 V Input, with Low IQ, 8-pin SOIC (D), -40 to 85 degC, Green (RoHS & no Sb/Br); Manufacturer: Texas Instruments; PartNumber: UCC284DP-5; Accuracy(%): 2.5; Iout(Max)(A): 0.5; Iq(Typ)(mA): 0.2; SubFamily: Single Channel LDO; Vdo(Typ)(mV): 200; DatasheetVersion: SLUS234D; PackageVersion: 4040047-3/M; PackageReference: D8; PackageDescription: 8-Pin Plastic Small Outline, Body 4.9 x 3.9 mm, Pitch 1.27 mm; Supplier 1: Digi-Key; Supplier Part Number 1: 296-11416-5-ND; Supplier 2: Newark; Supplier Part Number 2: 77C2156; Supplier 3: Mouser; Supplier Part Number 3: 595-UCC284DP-5; Eco-Plan: Green (RoHS & no Sb/Br); Fixed Output Options(V): -5; Vin(Max)(V): -15; Vin(Min)(V): -3.2; Vout Adj(Max)(V): -5; Vout Adj(Min)(V): -5; Mounting Technology: Surface Mount; Code_JEDEC: MS-012; ComponentLink1Description: Manufacturer URL; ComponentLink1URL: http://www.ti.com/; ComponentLink2Description: Datasheet; ComponentLink2URL: http://www.ti.com/general/docs/lit/getliterature.tsp?genericPartNumber=UCC284-5&fileType=pdf; ComponentLink3Description: Package Specification; ComponentLink3URL: http://www.ti.com/litv/pdf/msoi002j
footprint TI-D8_N (SOIC, 8-Leads, Body 4.9x3.9mm, Pitch 1.27mm, IPC Medium Density)
footprint TI-D8_L (SOIC, 8-Leads, Body 4.9x3.9mm, Pitch 1.27mm, IPC High Density)
footprint TI-D8_M (SOIC, 8-Leads, Body 4.9x3.9mm, Pitch 1.27mm, IPC Low Density)
pins: 1 VOUTS (in) "This is the feedback pin for sensing the output of the regulator. For the UCC384-5 and UCC384-12 versions, VOUTS can be connected directly to VOUT. If the load is placed at a considerable distance from the regulator, the (See Datasheet)", 2 VIN (power) "This is the negative input supply. Bypass this pin to GND with at least 1 µF of low ESR or ESL capacitance.", 3 VIN (power) "This is the negative input supply. Bypass this pin to GND with at least 1 µF of low ESR or ESL capacitance.", 4 GND (power) "This is the low noise ground reference input. All voltages are measured with respect to the GND pin.", 5 VOUT (power) "Regulated negative-output voltage. A single 4.7-µF capacitor should be connected between this pin and GND. Smaller value capacitors can be used for light loads, but this degrades the load-step performance of the regulator.", 6 VIN (power) "This is the negative input supply. Bypass this pin to GND with at least 1 µF of low ESR or ESL capacitance.", 7 VIN (power) "This is the negative input supply. Bypass this pin to GND with at least 1 µF of low ESR or ESL capacitance.", 8 SD/CT "This is the shutdown pin and also the short-circuit timing pin. Pulling this pin more positive than -0.7 V puts the circuit in a low-current shutdown mode. Placing a timing capacitor between this pin and GND sets the (See Datasheet)"

## UCC284DP-5G4
designator U?
Single Output LDO, 500 mA, Fixed -5 V Output, -3.2 to -15 V Input, with Low IQ, 8-pin SOIC (D), -40 to 85 degC, Green (RoHS & no Sb/Br); Manufacturer: Texas Instruments; PartNumber: UCC284DP-5G4; Accuracy(%): 2.5; Iout(Max)(A): 0.5; Iq(Typ)(mA): 0.2; SubFamily: Single Channel LDO; Vdo(Typ)(mV): 200; DatasheetVersion: SLUS234D; PackageVersion: 4040047-3/M; PackageReference: D8; PackageDescription: 8-Pin Plastic Small Outline, Body 4.9 x 3.9 mm, Pitch 1.27 mm; Supplier 1: Digi-Key; Supplier Part Number 1: UCC284DP-5G4-ND; Supplier 2: Farnell; Supplier Part Number 2: 1207400; Supplier 3: Newark; Supplier Part Number 3: 62M0925; Supplier 4: Newark; Supplier Part Number 4: 54K2042; Supplier 5: Mouser; Supplier Part Number 5: 595-UCC284DP-5G4; Eco-Plan: Green (RoHS & no Sb/Br); Fixed Output Options(V): -5; Vin(Max)(V): -15; Vin(Min)(V): -3.2; Vout Adj(Max)(V): -5; Vout Adj(Min)(V): -5; Mounting Technology: Surface Mount; Code_JEDEC: MS-012; ComponentLink1Description: Manufacturer URL; ComponentLink1URL: http://www.ti.com/; ComponentLink2Description: Datasheet; ComponentLink2URL: http://www.ti.com/general/docs/lit/getliterature.tsp?genericPartNumber=UCC284-5&fileType=pdf; ComponentLink3Description: Package Specification; ComponentLink3URL: http://www.ti.com/litv/pdf/msoi002j
footprint TI-D8_N (SOIC, 8-Leads, Body 4.9x3.9mm, Pitch 1.27mm, IPC Medium Density)
footprint TI-D8_L (SOIC, 8-Leads, Body 4.9x3.9mm, Pitch 1.27mm, IPC High Density)
footprint TI-D8_M (SOIC, 8-Leads, Body 4.9x3.9mm, Pitch 1.27mm, IPC Low Density)
pins: 1 VOUTS (in) "This is the feedback pin for sensing the output of the regulator. For the UCC384-5 and UCC384-12 versions, VOUTS can be connected directly to VOUT. If the load is placed at a considerable distance from the regulator, the (See Datasheet)", 2 VIN (power) "This is the negative input supply. Bypass this pin to GND with at least 1 µF of low ESR or ESL capacitance.", 3 VIN (power) "This is the negative input supply. Bypass this pin to GND with at least 1 µF of low ESR or ESL capacitance.", 4 GND (power) "This is the low noise ground reference input. All voltages are measured with respect to the GND pin.", 5 VOUT (power) "Regulated negative-output voltage. A single 4.7-µF capacitor should be connected between this pin and GND. Smaller value capacitors can be used for light loads, but this degrades the load-step performance of the regulator.", 6 VIN (power) "This is the negative input supply. Bypass this pin to GND with at least 1 µF of low ESR or ESL capacitance.", 7 VIN (power) "This is the negative input supply. Bypass this pin to GND with at least 1 µF of low ESR or ESL capacitance.", 8 SD/CT "This is the shutdown pin and also the short-circuit timing pin. Pulling this pin more positive than -0.7 V puts the circuit in a low-current shutdown mode. Placing a timing capacitor between this pin and GND sets the (See Datasheet)"

## UCC284DP-12
designator U?
Single Output LDO, 500 mA, Fixed -12 V Output, -3.2 to -15 V Input, with Low IQ, 8-pin SOIC (D), -40 to 85 degC, Green (RoHS & no Sb/Br); Manufacturer: Texas Instruments; PartNumber: UCC284DP-12; Accuracy(%): 2.5; Iout(Max)(A): 0.5; Iq(Typ)(mA): 0.2; SubFamily: Single Channel LDO; Vdo(Typ)(mV): 150; DatasheetVersion: SLUS234D; PackageVersion: 4040047-3/M; PackageReference: D8; PackageDescription: 8-Pin Plastic Small Outline, Body 4.9 x 3.9 mm, Pitch 1.27 mm; Supplier 1: Digi-Key; Supplier Part Number 1: 296-11415-5-ND; Supplier 2: Newark; Supplier Part Number 2: 77C2155; Supplier 3: Mouser; Supplier Part Number 3: 595-UCC284DP-12; Eco-Plan: Green (RoHS & no Sb/Br); Fixed Output Options(V): -12; Vin(Max)(V): -15; Vin(Min)(V): -3.2; Vout Adj(Max)(V): -12; Vout Adj(Min)(V): -12; Mounting Technology: Surface Mount; Code_JEDEC: MS-012; ComponentLink1Description: Manufacturer URL; ComponentLink1URL: http://www.ti.com/; ComponentLink2Description: Datasheet; ComponentLink2URL: http://www.ti.com/general/docs/lit/getliterature.tsp?genericPartNumber=UCC284-12&fileType=pdf; ComponentLink3Description: Package Specification; ComponentLink3URL: http://www.ti.com/litv/pdf/msoi002j
footprint TI-D8_N (SOIC, 8-Leads, Body 4.9x3.9mm, Pitch 1.27mm, IPC Medium Density)
footprint TI-D8_L (SOIC, 8-Leads, Body 4.9x3.9mm, Pitch 1.27mm, IPC High Density)
footprint TI-D8_M (SOIC, 8-Leads, Body 4.9x3.9mm, Pitch 1.27mm, IPC Low Density)
pins: 1 VOUTS (in) "This is the feedback pin for sensing the output of the regulator.", 2 VIN (power) "This is the negative input supply.", 3 VIN (power) "This is the negative input supply.", 4 GND (power) "This is the low noise ground reference input. All voltages are measured with respect to the GND pin.", 5 VOUT (power) "Regulated negative-output voltage.", 6 VIN (power) "This is the negative input supply.", 7 VIN (power) "This is the negative input supply.", 8 SD/CT (in) "This is the shutdown pin and also the short-circuit timing pin. Pulling this pin more positive than -0.7 V puts the circuit in a low-current shutdown mode. Placing a timing capacitor between this pin and GND sets the (See Datasheet)"

## UCC284DP-12G4
designator U?
Single Output LDO, 500 mA, Fixed -12 V Output, -3.2 to -15 V Input, with Low IQ, 8-pin SOIC (D), -40 to 85 degC, Green (RoHS & no Sb/Br); Manufacturer: Texas Instruments; PartNumber: UCC284DP-12G4; Accuracy(%): 2.5; Iout(Max)(A): 0.5; Iq(Typ)(mA): 0.2; SubFamily: Single Channel LDO; Vdo(Typ)(mV): 150; DatasheetVersion: SLUS234D; PackageVersion: 4040047-3/M; PackageReference: D8; PackageDescription: 8-Pin Plastic Small Outline, Body 4.9 x 3.9 mm, Pitch 1.27 mm; Supplier 1: Digi-Key; Supplier Part Number 1: UCC284DP-12G4-ND; Supplier 2: Newark; Supplier Part Number 2: 41M6411; Supplier 3: Mouser; Supplier Part Number 3: 595-UCC284DP-12G4; Eco-Plan: Green (RoHS & no Sb/Br); Fixed Output Options(V): -12; Vin(Max)(V): -15; Vin(Min)(V): -3.2; Vout Adj(Max)(V): -12; Vout Adj(Min)(V): -12; Mounting Technology: Surface Mount; Code_JEDEC: MS-012; ComponentLink1Description: Manufacturer URL; ComponentLink1URL: http://www.ti.com/; ComponentLink2Description: Datasheet; ComponentLink2URL: http://www.ti.com/general/docs/lit/getliterature.tsp?genericPartNumber=UCC284-12&fileType=pdf; ComponentLink3Description: Package Specification; ComponentLink3URL: http://www.ti.com/litv/pdf/msoi002j
footprint TI-D8_N (SOIC, 8-Leads, Body 4.9x3.9mm, Pitch 1.27mm, IPC Medium Density)
footprint TI-D8_L (SOIC, 8-Leads, Body 4.9x3.9mm, Pitch 1.27mm, IPC High Density)
footprint TI-D8_M (SOIC, 8-Leads, Body 4.9x3.9mm, Pitch 1.27mm, IPC Low Density)
pins: 1 VOUTS (in) "This is the feedback pin for sensing the output of the regulator.", 2 VIN (power) "This is the negative input supply.", 3 VIN (power) "This is the negative input supply.", 4 GND (power) "This is the low noise ground reference input. All voltages are measured with respect to the GND pin.", 5 VOUT (power) "Regulated negative-output voltage.", 6 VIN (power) "This is the negative input supply.", 7 VIN (power) "This is the negative input supply.", 8 SD/CT (in) "This is the shutdown pin and also the short-circuit timing pin. Pulling this pin more positive than -0.7 V puts the circuit in a low-current shutdown mode. Placing a timing capacitor between this pin and GND sets the (See Datasheet)"

## UCC284DP-ADJ
designator U?
Single Output LDO, 500 mA, Adjustable -1.25 to -15 V Output, -3.2 to -15 V Input, with Low IQ, 8-pin SOIC (D), -40 to 85 degC, Green (RoHS & no Sb/Br); Manufacturer: Texas Instruments; PartNumber: UCC284DP-ADJ; Accuracy(%): 2.5; Iout(Max)(A): 0.5; Iq(Typ)(mA): 0.2; SubFamily: Single Channel LDO; Vdo(Typ)(mV): 250; Vout Adj(Min)(V): -1.2; DatasheetVersion: SLUS234D; PackageVersion: 4040047-3/M; PackageReference: D8; PackageDescription: 8-Pin Plastic Small Outline, Body 4.9 x 3.9 mm, Pitch 1.27 mm; Supplier 1: Digi-Key; Supplier Part Number 1: 296-11417-5-ND; Supplier 2: Farnell; Supplier Part Number 2: 1106066; Supplier 3: Newark; Supplier Part Number 3: 77C2154; Supplier 4: Mouser; Supplier Part Number 4: 595-UCC284DP-ADJ; Eco-Plan: Green (RoHS & no Sb/Br); Vin(Max)(V): -15; Vin(Min)(V): -3.2; Vout Adj(Max)(V): -15; Mounting Technology: Surface Mount; Code_JEDEC: MS-012; ComponentLink1Description: Manufacturer URL; ComponentLink1URL: http://www.ti.com/; ComponentLink2Description: Datasheet; ComponentLink2URL: http://www.ti.com/general/docs/lit/getliterature.tsp?genericPartNumber=UCC284-ADJ&fileType=pdf; ComponentLink3Description: Package Specification; ComponentLink3URL: http://www.ti.com/litv/pdf/msoi002j
footprint TI-D8_N (SOIC, 8-Leads, Body 4.9x3.9mm, Pitch 1.27mm, IPC Medium Density)
footprint TI-D8_L (SOIC, 8-Leads, Body 4.9x3.9mm, Pitch 1.27mm, IPC High Density)
footprint TI-D8_M (SOIC, 8-Leads, Body 4.9x3.9mm, Pitch 1.27mm, IPC Low Density)
pins: 1 VOUTS (in) "This is the feedback pin for sensing the output of the regulator. For the UCC384-5 and UCC384-12 versions, VOUTS can be connected directly to VOUT. If the load is placed at a considerable distance from the regulator, the (See Datasheet)", 2 VIN (power) "This is the negative input supply. Bypass this pin to GND with at least 1 µF of low ESR or ESL capacitance.", 3 VIN (power) "This is the negative input supply. Bypass this pin to GND with at least 1 µF of low ESR or ESL capacitance.", 4 GND (power) "This is the low noise ground reference input. All voltages are measured with respect to the GND pin.", 5 VOUT (power) "Regulated negative-output voltage. A single 4.7-µF capacitor should be connected between this pin and GND. Smaller value capacitors can be used for light loads, but this degrades the load-step performance of the regulator.", 6 VIN (power) "This is the negative input supply. Bypass this pin to GND with at least 1 µF of low ESR or ESL capacitance.", 7 VIN (power) "This is the negative input supply. Bypass this pin to GND with at least 1 µF of low ESR or ESL capacitance.", 8 SD/CT "This is the shutdown pin and also the short-circuit timing pin. Pulling this pin more positive than -0.7 V puts the circuit in a low-current shutdown mode. Placing a timing capacitor between this pin and GND sets the (See Datasheet)"